# EAGLE library part AM26LS32 (library ijrobotics)
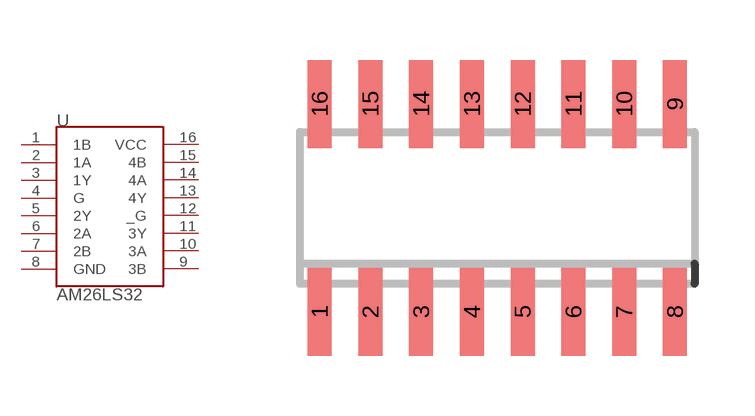
[diagram p5: symbol with the pads of SOIC16N; footprint SOIC16N]

Designator prefix -

## AM26LS32  [SOIC16N]
1  1B  in
2  1A  in
3  1Y  out
4  G  in
5  2Y  out
6  2A  in
7  2B  in
8  GND  pwr
9  3B  in
10  3A  in
11  3Y  out
12  _G  in
13  4Y  out
14  4A  in
15  4B  in
16  VCC  pwr

## Footprint SOIC16N (pad centres in mm)
SMALL OUTLINE INTEGRATED CIRCUIT
smd 0.6 x 2.2: 1 -4.445,-2.6; 2 -3.175,-2.6; 3 -1.905,-2.6; 4 -0.635,-2.6; 5 0.635,-2.6; 6 1.905,-2.6; 7 3.175,-2.6; 8 4.445,-2.6; 9 4.445,2.6; 10 3.175,2.6; 11 1.905,2.6; 12 0.635,2.6; 13 -0.635,2.6; 14 -1.905,2.6; 15 -3.175,2.6; 16 -4.445,2.6